# EAGLE library part XIL_JTG_HDR (library jobygnss)
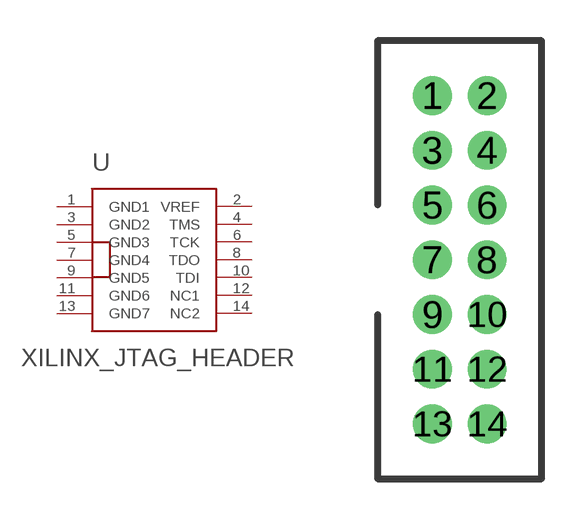
[diagram p6: symbol with the pads of XIL_JTAG_HDR; footprint XIL_JTAG_HDR]

Designator prefix -

## XIL_JTG_HDR  [XIL_JTAG_HDR]
1  GND1
2  VREF
3  GND2
4  TMS
5  GND3
6  TCK
7  GND4
8  TDO
9  GND5
10  TDI
11  GND6
12  NC1
13  GND7
14  NC2

## Footprint XIL_JTAG_HDR (pad centres in mm)
drill 0.914 pad 1.422: 1 0,0; 2 2.007,0; 3 0,-2.007; 4 2.007,-2.007; 5 0,-4.013; 6 2.007,-4.013; 7 0,-6.02; 8 2.007,-6.02; 9 0,-8.026; 10 2.007,-8.026; 11 0,-10.033; 12 2.007,-10.033; 13 0,-12.04; 14 2.007,-12.04